# EAGLE library part INA212AIDCKR (library INA212-BIDCKR)
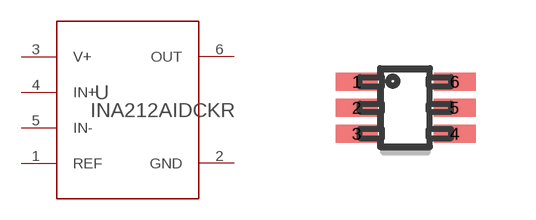
[diagram p0: symbol with the pads of DCK0006A_M; footprint DCK0006A_M]

Designator prefix U

## INA212AIDCKR  [DCK0006A_M]
1  REF  in
2  GND  pwr
3  V+  pwr
4  IN+  in
5  IN-  in
6  OUT  out

## Footprint DCK0006A_M (pad centres in mm)
smd 1.05 x 0.45: 1 -1.225,0.65; 2 -1.225,0; 3 -1.225,-0.65; 4 1.225,-0.65; 5 1.225,0; 6 1.225,0.65